# EAGLE library part TSW-D-88 (library con-samtec-tsw)
HEADER
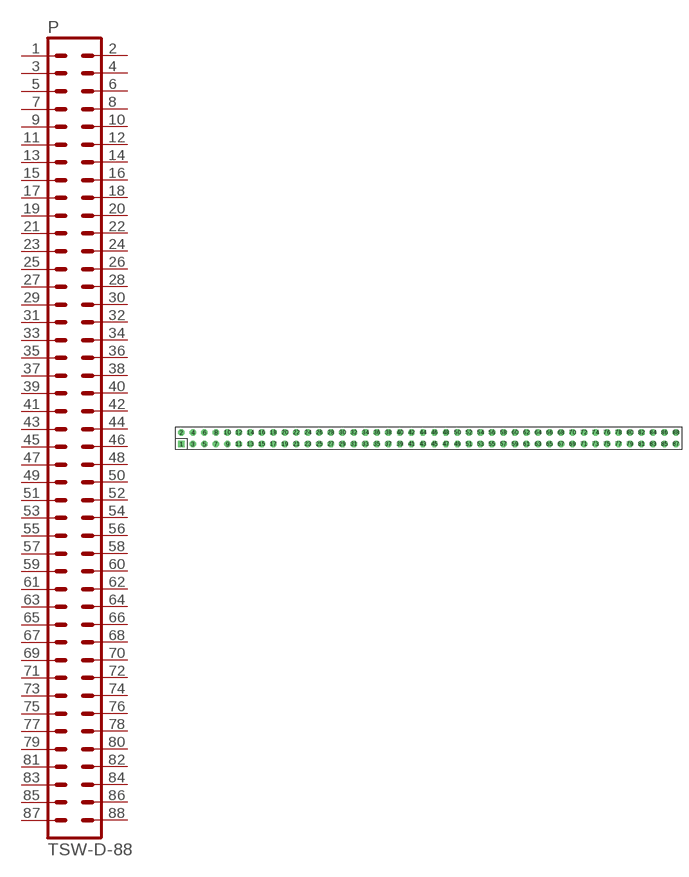
[diagram p131: symbol with the pads of TSW-D-88; footprint TSW-D-88]

Designator prefix P

## TSW-D-88  [TSW-D-88]
1  1  pas
2  2  pas
3  3  pas
4  4  pas
5  5  pas
6  6  pas
7  7  pas
8  8  pas
9  9  pas
10  10  pas
11  11  pas
12  12  pas
13  13  pas
14  14  pas
15  15  pas
16  16  pas
17  17  pas
18  18  pas
19  19  pas
20  20  pas
21  21  pas
22  22  pas
23  23  pas
24  24  pas
25  25  pas
26  26  pas
27  27  pas
28  28  pas
29  29  pas
30  30  pas
31  31  pas
32  32  pas
33  33  pas
34  34  pas
35  35  pas
36  36  pas
37  37  pas
38  38  pas
39  39  pas
40  40  pas
41  41  pas
42  42  pas
43  43  pas
44  44  pas
45  45  pas
46  46  pas
47  47  pas
48  48  pas
49  49  pas
50  50  pas
51  51  pas
52  52  pas
53  53  pas
54  54  pas
55  55  pas
56  56  pas
57  57  pas
58  58  pas
59  59  pas
60  60  pas
61  61  pas
62  62  pas
63  63  pas
64  64  pas
65  65  pas
66  66  pas
67  67  pas
68  68  pas
69  69  pas
70  70  pas
71  71  pas
72  72  pas
73  73  pas
74  74  pas
75  75  pas
76  76  pas
77  77  pas
78  78  pas
79  79  pas
80  80  pas
81  81  pas
82  82  pas
83  83  pas
84  84  pas
85  85  pas
86  86  pas
87  87  pas
88  88  pas

## Footprint TSW-D-88 (pad centres in mm)
HEADER
drill 0.914 square: 1 -54.61,-1.27
drill 0.914 octagon: 2 -54.61,1.27; 3 -52.07,-1.27; 4 -52.07,1.27; 5 -49.53,-1.27; 6 -49.53,1.27; 7 -46.99,-1.27; 8 -46.99,1.27; 9 -44.45,-1.27; 10 -44.45,1.27; 11 -41.91,-1.27; 12 -41.91,1.27; 13 -39.37,-1.27; 14 -39.37,1.27; 15 -36.83,-1.27; 16 -36.83,1.27; 17 -34.29,-1.27; 18 -34.29,1.27; 19 -31.75,-1.27; 20 -31.75,1.27; 21 -29.21,-1.27; 22 -29.21,1.27; 23 -26.67,-1.27; 24 -26.67,1.27; 25 -24.13,-1.27; 26 -24.13,1.27; 27 -21.59,-1.27; 28 -21.59,1.27; 29 -19.05,-1.27; 30 -19.05,1.27; 31 -16.51,-1.27; 32 -16.51,1.27; 33 -13.97,-1.27; 34 -13.97,1.27; 35 -11.43,-1.27; 36 -11.43,1.27; 37 -8.89,-1.27; 38 -8.89,1.27; 39 -6.35,-1.27; 40 -6.35,1.27; 41 -3.81,-1.27; 42 -3.81,1.27; 43 -1.27,-1.27; 44 -1.27,1.27; 45 1.27,-1.27; 46 1.27,1.27; 47 3.81,-1.27; 48 3.81,1.27; 49 6.35,-1.27; 50 6.35,1.27; 51 8.89,-1.27; 52 8.89,1.27; 53 11.43,-1.27; 54 11.43,1.27; 55 13.97,-1.27; 56 13.97,1.27; 57 16.51,-1.27; 58 16.51,1.27; 59 19.05,-1.27; 60 19.05,1.27; 61 21.59,-1.27; 62 21.59,1.27; 63 24.13,-1.27; 64 24.13,1.27; 65 26.67,-1.27; 66 26.67,1.27; 67 29.21,-1.27; 68 29.21,1.27; 69 31.75,-1.27; 70 31.75,1.27; 71 34.29,-1.27; 72 34.29,1.27; 73 36.83,-1.27; 74 36.83,1.27; 75 39.37,-1.27; 76 39.37,1.27; 77 41.91,-1.27; 78 41.91,1.27; 79 44.45,-1.27; 80 44.45,1.27; 81 46.99,-1.27; 82 46.99,1.27; 83 49.53,-1.27; 84 49.53,1.27; 85 52.07,-1.27; 86 52.07,1.27; 87 54.61,-1.27; 88 54.61,1.27